# Altium integrated library Infineon_Power_MOSFET.IntLib: 1448 symbols (part 16 of 47)
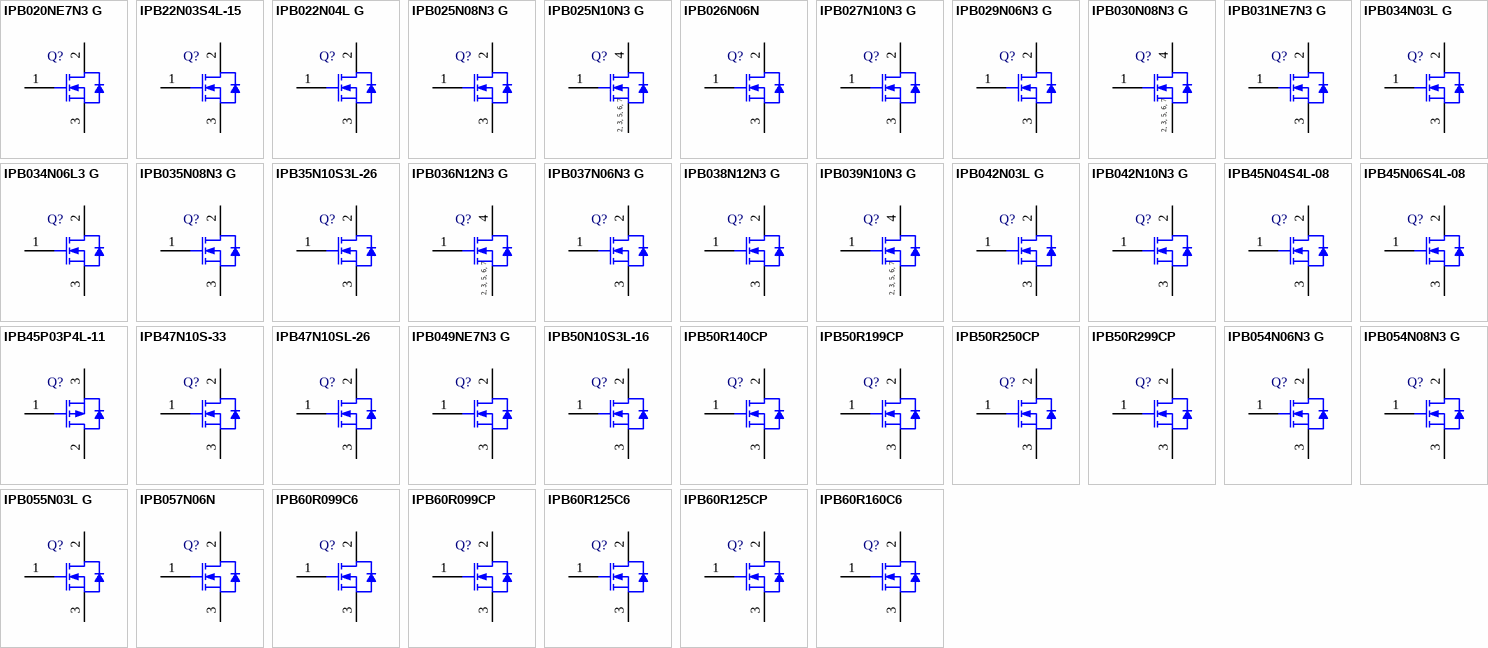
[diagram p52: symbols IPB020NE7N3 G to IPB60R160C6]

## IPB47N10S-33
designator Q?
SIPMOS Power-Transistor, 100 V VDS, 47 A ID, PG-TO263-3-2, Reel, Green; Manufacturer: Infineon; PartNumber: IPB47N10S-33; Green: TRUE; ID (max): 47 A; IDpuls (max): 188 A; Ptot (max): 175 W; QG: 70 nC; RDS (on) (max) (@10V): 33 mOhm; RthJC (max): 0.85 K/W; VDS (max): 100 V; VGS(th) (max): 4 V; VGS(th) (min): 2.1 V; PackageVersion: Jul-09; PackageReference: PG-TO263-3-2; PackageDescription: 3-Pin Plastic (Green) Transistor Single Outline Package, 10 x 9.25 mm Body, 2.54 mm Pitch; Supplier 1: Mouser; Supplier Part Number 1: 726-IPB47N10S33; Supplier 2: Digi-Key; Supplier Part Number 2: IPB47N10S-33TR-ND; Supplier 3: Digi-Key; Supplier Part Number 3: IPB47N10S-33CT-ND; Supplier 4: Digi-Key; Supplier Part Number 4: IPB47N10S-33DKR-ND; Halogen-free: TRUE; Packing: Reel; Technology: SIPMOS; Mounting Technology: Surface Mount; ComponentLink1Description: Manufacturer URL; ComponentLink1URL: http://www.infineon.com/; ComponentLink2Description: Datasheet; ComponentLink2URL: http://www.infineon.com/dgdl/IPP_B_I47N10S-33.pdf?folderId=db3a304412b407950112b42a6a0a4339&fileId=db3a304412b407950112b42a6f52433e&location=en.Products.Automotive_ICs.Automotive_MOSFETs.Single__N-Channel_100V_MOSFETs.DATASHEET.IPP_B_I47N10S-33.pdf; ComponentLink3Description: Package Specification; ComponentLink3URL: http://www.infineon.com/dgdl/BTS141TC_DS_10.pdf?folderId=db3a3043163797a6011667aa084c0e01&fileId=db3a3043242ebc9e01242f43f58b003e&location=en.Products.Automotive_ICs.Smart_High-_and_Low-Side_Switches.HITFET___TEMPFET__-_Smart_Low-Side_Switches.DATASHEET.BTS141TC_DS_10.pdf
footprint INF-PG-TO263-3-2_N (DPAK, 3-Leads, Body 10x9.25mm, Pitch 2.54mm, IPC Medium Density)
footprint INF-PG-TO263-3-2_L (DPAK, 3-Leads, Body 10x9.25mm, Pitch 2.54mm, IPC High Density)
footprint INF-PG-TO263-3-2_M (DPAK, 3-Leads, Body 10x9.25mm, Pitch 2.54mm, IPC Low Density)
pins: 1 GATE, 2 DRAIN, 3 SOURCE

## IPB47N10SL-26
designator Q?
SIPMOS Power-Transistor, 100 V VDS, 47 A ID, PG-TO263-3-2, Reel, Green; Manufacturer: Infineon; PartNumber: IPB47N10SL-26; Green: TRUE; ID (max): 47 A; IDpuls (max): 188 A; Ptot (max): 175 W; QG: 90 nC; RDS (on) (max) (@10V): 26 mOhm; RDS (on) (max) (@4.5V): 40 mOhm; RthJC (max): 0.85 K/W; VDS (max): 100 V; VGS(th) (max): 2 V; VGS(th) (min): 1.2 V; PackageVersion: Jul-09; PackageReference: PG-TO263-3-2; PackageDescription: 3-Pin Plastic (Green) Transistor Single Outline Package, 10 x 9.25 mm Body, 2.54 mm Pitch; Supplier 1: Mouser; Supplier Part Number 1: 726-IPB47N10SL-26; Supplier 2: Digi-Key; Supplier Part Number 2: IPB47N10SL-26TR-ND; Supplier 3: Digi-Key; Supplier Part Number 3: IPB47N10SL-26CT-ND; Supplier 4: Digi-Key; Supplier Part Number 4: IPB47N10SL-26DKR-ND; Halogen-free: TRUE; Packing: Reel; Technology: SIPMOS; Mounting Technology: Surface Mount; ComponentLink1Description: Manufacturer URL; ComponentLink1URL: http://www.infineon.com/; ComponentLink2Description: Datasheet; ComponentLink2URL: http://www.infineon.com/dgdl/IPP_B_I47N10SL-26.pdf?folderId=db3a304412b407950112b42a6a0a4339&fileId=db3a304412b407950112b42a6a78433a&location=en.Products.Automotive_ICs.Automotive_MOSFETs.Single__N-Channel_100V_MOSFETs.DATASHEET.IPP_B_I47N10SL-26.pdf; ComponentLink3Description: Package Specification; ComponentLink3URL: http://www.infineon.com/dgdl/BTS141TC_DS_10.pdf?folderId=db3a3043163797a6011667aa084c0e01&fileId=db3a3043242ebc9e01242f43f58b003e&location=en.Products.Automotive_ICs.Smart_High-_and_Low-Side_Switches.HITFET___TEMPFET__-_Smart_Low-Side_Switches.DATASHEET.BTS141TC_DS_10.pdf
footprint INF-PG-TO263-3-2_N (DPAK, 3-Leads, Body 10x9.25mm, Pitch 2.54mm, IPC Medium Density)
footprint INF-PG-TO263-3-2_L (DPAK, 3-Leads, Body 10x9.25mm, Pitch 2.54mm, IPC High Density)
footprint INF-PG-TO263-3-2_M (DPAK, 3-Leads, Body 10x9.25mm, Pitch 2.54mm, IPC Low Density)
pins: 1 GATE, 2 DRAIN, 3 SOURCE

## IPB049NE7N3 G
designator Q?
N-Channel OptiMOS 3 Power-Transistor, 75 V VDS, 80 A ID, -55 to 175 degC, PG-TO-263-3-2, Reel, Green; Manufacturer: Infineon; PartNumber: IPB049NE7N3 G; Green: TRUE; ID (max): 80 A; IDpuls (max): 320 A; Polarity: N; Ptot (max): 150 W; QG: 51 nC; RDS (on) (max): 4.9 mOhm; Rth: 1 K/W; RthJA (max): 62 K/W; VDS (max): 75 V; VGS(th) (max): 3.8 V; VGS(th) (min): 2.3 V; DatasheetVersion: Rev. 2.2; PackageVersion: Rev. 01, 08/2007; PackageReference: PG-TO-263-3-2; PackageDescription: 3-Pin Plastic (Green) Transistor Single Outline Package, 10.06 x 8.98 mm Body, 2.54 mm Pitch; Supplier 1: Mouser; Supplier Part Number 1: 726-IPB049NE7N3G; Supplier 2: Digi-Key; Supplier Part Number 2: IPB049NE7N3 GTR-ND; Supplier 3: Digi-Key; Supplier Part Number 3: IPB049NE7N3 GCT-ND; Supplier 4: Digi-Key; Supplier Part Number 4: IPB049NE7N3 GDKR-ND; Halogen-free: TRUE; Packing: Reel; RthJC (max): 1 K/W; Mounting Technology: Surface Mount; ComponentLink1Description: Manufacturer URL; ComponentLink1URL: http://www.infineon.com/; ComponentLink2Description: Datasheet; ComponentLink2URL: http://www.infineon.com/dgdl/IPB049NE7N3_Rev2.2.pdf?folderId=db3a304313b8b5a60113cee8763b02d7&fileId=db3a304320d39d590121a517a48e0bb9; ComponentLink3Description: Package Specification; ComponentLink3URL: http://www.infineon.com/dgdl/IPB026N06N_Rev2.2.pdf?folderId=db3a304313b8b5a60113cee8763b02d7&fileId=db3a3043372d5cc8013754c7b2a74f7c
footprint INF-PG-TO-263-3-2_A_N (DPAK, 3-Leads, Body 10.06x8.98mm, Pitch 2.54mm, IPC Medium Density)
footprint INF-PG-TO-263-3-2_A_L (DPAK, 3-Leads, Body 10.06x8.98mm, Pitch 2.54mm, IPC High Density)
footprint INF-PG-TO-263-3-2_A_M (DPAK, 3-Leads, Body 10.06x8.98mm, Pitch 2.54mm, IPC Low Density)
pins: 1 GATE, 2 DRAIN, 3 SOURCE

## IPB50N10S3L-16
designator Q?
OptiMOS-T Power-Transistor, 100 V VDS, 50 A ID, PG-TO263-3-2, Reel, Green; Manufacturer: Infineon; PartNumber: IPB50N10S3L-16; Green: TRUE; ID (max): 50 A; IDpuls (max): 200 A; Ptot (max): 100 W; QG: 49 nC; RDS (on) (max) (@10V): 15.4 mOhm; RDS (on) (max) (@4.5V): 20.6 mOhm; RthJC (max): 1.5 K/W; VDS (max): 100 V; VGS(th) (max): 2.4 V; VGS(th) (min): 1.2 V; DatasheetVersion: Rev. 1.1; PackageVersion: Jul-09; PackageReference: PG-TO263-3-2; PackageDescription: 3-Pin Plastic (Green) Transistor Single Outline Package, 10 x 9.25 mm Body, 2.54 mm Pitch; Supplier 1: Mouser; Supplier Part Number 1: 726-IPB50N10S3L16; Supplier 2: Digi-Key; Supplier Part Number 2: IPB50N10S3L-16INTR-ND; Supplier 3: Digi-Key; Supplier Part Number 3: IPB50N10S3L-16INCT-ND; Supplier 4: Digi-Key; Supplier Part Number 4: IPB50N10S3L-16INDKR-ND; Halogen-free: TRUE; Packing: Reel; Technology: OptiMOS-T; Mounting Technology: Surface Mount; ComponentLink1Description: Manufacturer URL; ComponentLink1URL: http://www.infineon.com/; ComponentLink2Description: Datasheet; ComponentLink2URL: http://www.infineon.com/dgdl/IPP_B_I50N10S3L-16_DS_1_1_neu.pdf?folderId=db3a3043156fd5730115c7d50620107c&fileId=db3a30431a5c32f2011a9090a32c5962&location=en.Products.Automotive_ICs.Automotive_MOSFETs.Single__N-Channel_100V_MOSFETs.DATASHEET.IPP_B_I50N10S3L-16_DS_1_1_neu.pdf; ComponentLink3Description: Package Specification; ComponentLink3URL: http://www.infineon.com/dgdl/BTS141TC_DS_10.pdf?folderId=db3a3043163797a6011667aa084c0e01&fileId=db3a3043242ebc9e01242f43f58b003e&location=en.Products.Automotive_ICs.Smart_High-_and_Low-Side_Switches.HITFET___TEMPFET__-_Smart_Low-Side_Switches.DATASHEET.BTS141TC_DS_10.pdf
footprint INF-PG-TO263-3-2_N (DPAK, 3-Leads, Body 10x9.25mm, Pitch 2.54mm, IPC Medium Density)
footprint INF-PG-TO263-3-2_L (DPAK, 3-Leads, Body 10x9.25mm, Pitch 2.54mm, IPC High Density)
footprint INF-PG-TO263-3-2_M (DPAK, 3-Leads, Body 10x9.25mm, Pitch 2.54mm, IPC Low Density)
pins: 1 GATE, 2 DRAIN, 3 SOURCE

## IPB50R140CP
designator Q?
N-Channel CoolMOS Power-Transistor, 500 V VDS, 23 A ID, -55 to 150 degC, PG-TO263-3-2, Reel, Green; Manufacturer: Infineon; PartNumber: IPB50R140CP; Green: TRUE; ID (max): 23 A; IDpuls (max): 56 A; Polarity: N; Ptot (max): 192 W; QG: 48 nC; RDS (on) (max): 140 mOhm; Rth: 0.65 K/W; RthJA (max): 62 K/W; VDS (max): 500 V; VGS(th) (max): 3.5 V; VGS(th) (min): 2.5 V; DatasheetVersion: Rev. 2.0; PackageVersion: Jul-09; PackageReference: PG-TO263-3-2; PackageDescription: 3-Pin Plastic (Green) Transistor Single Outline Package, 10 x 9.25 mm Body, 2.54 mm Pitch; Supplier 1: Mouser; Supplier Part Number 1: 726-IPB50R140CP; Supplier 2: Digi-Key; Supplier Part Number 2: IPB50R140CPTR-ND; Supplier 3: Digi-Key; Supplier Part Number 3: IPB50R140CPCT-ND; Supplier 4: Digi-Key; Supplier Part Number 4: IPB50R140CPDKR-ND; Halogen-free: TRUE; Packing: Reel; RthJC (max): 0.65 K/W; Technology: CoolMOS CP; Mounting Technology: Surface Mount; ComponentLink1Description: Manufacturer URL; ComponentLink1URL: http://www.infineon.com/; ComponentLink2Description: Datasheet; ComponentLink2URL: http://www.infineon.com/dgdl/IPB50R140CP_rev2.0.pdf?folderId=db3a304412b407950112b408e8c90004&fileId=db3a304412b407950112b42d4eb4484f; ComponentLink3Description: Package Specification; ComponentLink3URL: http://www.infineon.com/dgdl/BTS141TC_DS_10.pdf?folderId=db3a3043163797a6011667aa084c0e01&fileId=db3a3043242ebc9e01242f43f58b003e&location=en.Products.Automotive_ICs.Smart_High-_and_Low-Side_Switches.HITFET___TEMPFET__-_Smart_Low-Side_Switches.DATASHEET.BTS141TC_DS_10.pdf
footprint INF-PG-TO263-3-2_N (DPAK, 3-Leads, Body 10x9.25mm, Pitch 2.54mm, IPC Medium Density)
footprint INF-PG-TO263-3-2_L (DPAK, 3-Leads, Body 10x9.25mm, Pitch 2.54mm, IPC High Density)
footprint INF-PG-TO263-3-2_M (DPAK, 3-Leads, Body 10x9.25mm, Pitch 2.54mm, IPC Low Density)
pins: 1 GATE, 2 DRAIN, 3 SOURCE

## IPB50R199CP
designator Q?
N-Channel CoolMOS Power-Transistor, 500 V VDS, 17 A ID, -55 to 150 degC, PG-TO263-3-2, Reel, Green; Manufacturer: Infineon; PartNumber: IPB50R199CP; Green: TRUE; ID (max): 17 A; IDpuls (max): 40 A; Polarity: N; Ptot (max): 139 W; QG: 34 nC; RDS (on) (max): 199 mOhm; Rth: 0.9 K/W; RthJA (max): 62 K/W; VDS (max): 500 V; VGS(th) (max): 3.5 V; VGS(th) (min): 2.5 V; DatasheetVersion: Rev. 2.0; PackageVersion: Jul-09; PackageReference: PG-TO263-3-2; PackageDescription: 3-Pin Plastic (Green) Transistor Single Outline Package, 10 x 9.25 mm Body, 2.54 mm Pitch; Supplier 1: Mouser; Supplier Part Number 1: 726-IPB50R199CP; Supplier 2: Newark; Supplier Part Number 2: 47W3468; Supplier 3: Farnell; Supplier Part Number 3: 2212849; Supplier 4: Digi-Key; Supplier Part Number 4: IPB50R199CP-ND; Halogen-free: TRUE; Packing: Reel; RthJC (max): 0.9 K/W; Technology: CoolMOS CP; Mounting Technology: Surface Mount; ComponentLink1Description: Manufacturer URL; ComponentLink1URL: http://www.infineon.com/; ComponentLink2Description: Datasheet; ComponentLink2URL: http://www.infineon.com/dgdl/IPB50R199CP_rev2.0.pdf?folderId=db3a304412b407950112b408e8c90004&fileId=db3a304412b407950112b42d54ba4857; ComponentLink3Description: Package Specification; ComponentLink3URL: http://www.infineon.com/dgdl/BTS141TC_DS_10.pdf?folderId=db3a3043163797a6011667aa084c0e01&fileId=db3a3043242ebc9e01242f43f58b003e&location=en.Products.Automotive_ICs.Smart_High-_and_Low-Side_Switches.HITFET___TEMPFET__-_Smart_Low-Side_Switches.DATASHEET.BTS141TC_DS_10.pdf
footprint INF-PG-TO263-3-2_N (DPAK, 3-Leads, Body 10x9.25mm, Pitch 2.54mm, IPC Medium Density)
footprint INF-PG-TO263-3-2_L (DPAK, 3-Leads, Body 10x9.25mm, Pitch 2.54mm, IPC High Density)
footprint INF-PG-TO263-3-2_M (DPAK, 3-Leads, Body 10x9.25mm, Pitch 2.54mm, IPC Low Density)
pins: 1 GATE, 2 DRAIN, 3 SOURCE

## IPB50R250CP
designator Q?
N-Channel CoolMOS Power-Transistor, 500 V VDS, 13 A ID, -55 to 150 degC, PG-TO263-3-2, Reel, Green; Manufacturer: Infineon; PartNumber: IPB50R250CP; Green: TRUE; ID (max): 13 A; IDpuls (max): 31 A; Polarity: N; Ptot (max): 114 W; QG: 27 nC; RDS (on) (max): 250 mOhm; Rth: 1.1 K/W; RthJA (max): 62 K/W; VDS (max): 500 V; VGS(th) (max): 3.5 V; VGS(th) (min): 2.5 V; DatasheetVersion: Rev. 2.0; PackageVersion: Jul-09; PackageReference: PG-TO263-3-2; PackageDescription: 3-Pin Plastic (Green) Transistor Single Outline Package, 10 x 9.25 mm Body, 2.54 mm Pitch; Supplier 1: Mouser; Supplier Part Number 1: 726-IPB50R250CP; Supplier 2: Digi-Key; Supplier Part Number 2: IPB50R250CP-ND; Halogen-free: TRUE; Packing: Reel; RthJC (max): 1.1 K/W; Technology: CoolMOS CP; Mounting Technology: Surface Mount; ComponentLink1Description: Manufacturer URL; ComponentLink1URL: http://www.infineon.com/; ComponentLink2Description: Datasheet; ComponentLink2URL: http://www.infineon.com/dgdl/IPB50R250CP_rev2.0.pdf?folderId=db3a304412b407950112b408e8c90004&fileId=db3a304412b407950112b42d51af4853; ComponentLink3Description: Package Specification; ComponentLink3URL: http://www.infineon.com/dgdl/BTS141TC_DS_10.pdf?folderId=db3a3043163797a6011667aa084c0e01&fileId=db3a3043242ebc9e01242f43f58b003e&location=en.Products.Automotive_ICs.Smart_High-_and_Low-Side_Switches.HITFET___TEMPFET__-_Smart_Low-Side_Switches.DATASHEET.BTS141TC_DS_10.pdf
footprint INF-PG-TO263-3-2_N (DPAK, 3-Leads, Body 10x9.25mm, Pitch 2.54mm, IPC Medium Density)
footprint INF-PG-TO263-3-2_L (DPAK, 3-Leads, Body 10x9.25mm, Pitch 2.54mm, IPC High Density)
footprint INF-PG-TO263-3-2_M (DPAK, 3-Leads, Body 10x9.25mm, Pitch 2.54mm, IPC Low Density)
pins: 1 GATE, 2 DRAIN, 3 SOURCE

## IPB50R299CP
designator Q?
N-Channel CoolMOS Power-Transistor, 500 V VDS, 12 A ID, -55 to 150 degC, PG-TO263-3-2, Reel, Green; Manufacturer: Infineon; PartNumber: IPB50R299CP; Green: TRUE; ID (max): 12 A; IDpuls (max): 26 A; Polarity: N; Ptot (max): 104 W; QG: 23 nC; RDS (on) (max): 299 mOhm; Rth: 1.2 K/W; RthJA (max): 62 K/W; VDS (max): 500 V; VGS(th) (max): 3.5 V; VGS(th) (min): 2.5 V; DatasheetVersion: Rev. 2.1; PackageVersion: Jul-09; PackageReference: PG-TO263-3-2; PackageDescription: 3-Pin Plastic (Green) Transistor Single Outline Package, 10 x 9.25 mm Body, 2.54 mm Pitch; Supplier 1: Mouser; Supplier Part Number 1: 726-IPB50R299CP; Supplier 2: Digi-Key; Supplier Part Number 2: IPB50R299CP-ND; Halogen-free: TRUE; Packing: Reel; RthJC (max): 1.2 K/W; Technology: CoolMOS CP; Mounting Technology: Surface Mount; ComponentLink1Description: Manufacturer URL; ComponentLink1URL: http://www.infineon.com/; ComponentLink2Description: Datasheet; ComponentLink2URL: http://www.infineon.com/dgdl/IPB50R299CP_rev2.1.pdf?folderId=db3a304412b407950112b408e8c90004&fileId=db3a304412b407950112b42d45744843; ComponentLink3Description: Package Specification; ComponentLink3URL: http://www.infineon.com/dgdl/BTS141TC_DS_10.pdf?folderId=db3a3043163797a6011667aa084c0e01&fileId=db3a3043242ebc9e01242f43f58b003e&location=en.Products.Automotive_ICs.Smart_High-_and_Low-Side_Switches.HITFET___TEMPFET__-_Smart_Low-Side_Switches.DATASHEET.BTS141TC_DS_10.pdf
footprint INF-PG-TO263-3-2_N (DPAK, 3-Leads, Body 10x9.25mm, Pitch 2.54mm, IPC Medium Density)
footprint INF-PG-TO263-3-2_L (DPAK, 3-Leads, Body 10x9.25mm, Pitch 2.54mm, IPC High Density)
footprint INF-PG-TO263-3-2_M (DPAK, 3-Leads, Body 10x9.25mm, Pitch 2.54mm, IPC Low Density)
pins: 1 GATE, 2 DRAIN, 3 SOURCE

## IPB054N06N3 G
designator Q?
N-Channel OptiMOS 3 Power-Transistor, 60 V VDS, 80 A ID, -55 to 175 degC, PG-TO-263-3-2, Reel, Green; Manufacturer: Infineon; PartNumber: IPB054N06N3 G; Green: TRUE; ID (max): 80 A; IDpuls (max): 320 A; Polarity: N; Ptot (max): 115 W; QG: 61 nC; RDS (on) (max): 5.4 mOhm; Rth: 1.3 K/W; RthJA (max): 62 K/W; VDS (max): 60 V; VGS(th) (max): 4 V; VGS(th) (min): 2 V; DatasheetVersion: Rev. 2.2; PackageVersion: Rev. 01, 08/2007; PackageReference: PG-TO-263-3-2; PackageDescription: 3-Pin Plastic (Green) Transistor Single Outline Package, 10.06 x 8.98 mm Body, 2.54 mm Pitch; Supplier 1: Mouser; Supplier Part Number 1: 726-IPB054N06N3G; Supplier 2: Digi-Key; Supplier Part Number 2: IPB054N06N3 GTR-ND; Supplier 3: Digi-Key; Supplier Part Number 3: IPB054N06N3 GCT-ND; Supplier 4: Digi-Key; Supplier Part Number 4: IPB054N06N3 GDKR-ND; Halogen-free: TRUE; Packing: Reel; RthJC (max): 1.3 K/W; Mounting Technology: Surface Mount; ComponentLink1Description: Manufacturer URL; ComponentLink1URL: http://www.infineon.com/; ComponentLink2Description: Datasheet; ComponentLink2URL: http://www.infineon.com/dgdl/IPP_B057N06N3_Rev2.2.pdf?folderId=db3a30431441fb5d01148ca9f1be0e77&fileId=db3a30431ddc9372011e2b439f1d4d93; ComponentLink3Description: Package Specification; ComponentLink3URL: http://www.infineon.com/dgdl/IPB026N06N_Rev2.2.pdf?folderId=db3a304313b8b5a60113cee8763b02d7&fileId=db3a3043372d5cc8013754c7b2a74f7c
footprint INF-PG-TO-263-3-2_A_N (DPAK, 3-Leads, Body 10.06x8.98mm, Pitch 2.54mm, IPC Medium Density)
footprint INF-PG-TO-263-3-2_A_L (DPAK, 3-Leads, Body 10.06x8.98mm, Pitch 2.54mm, IPC High Density)
footprint INF-PG-TO-263-3-2_A_M (DPAK, 3-Leads, Body 10.06x8.98mm, Pitch 2.54mm, IPC Low Density)
pins: 1 GATE, 2 DRAIN, 3 SOURCE

## IPB054N08N3 G
designator Q?
N-Channel OptiMOS 3 Power-Transistor, 80 V VDS, 80 A ID, -55 to 175 degC, PG-TO-263-3-2, Reel, Green; Manufacturer: Infineon; PartNumber: IPB054N08N3 G; Green: TRUE; ID (max): 80 A; IDpuls (max): 320 A; Polarity: N; Ptot (max): 150 W; QG: 52 nC; RDS (on) (max): 5.4 mOhm; Rth: 1 K/W; RthJA (max): 62 K/W; VDS (max): 80 V; VGS(th) (max): 3.5 V; VGS(th) (min): 2 V; DatasheetVersion: Rev. 1.2; PackageVersion: Rev. 01, 08/2007; PackageReference: PG-TO-263-3-2; PackageDescription: 3-Pin Plastic (Green) Transistor Single Outline Package, 10.06 x 8.98 mm Body, 2.54 mm Pitch; Supplier 1: Mouser; Supplier Part Number 1: 726-IPB054N08N3G; Supplier 2: Digi-Key; Supplier Part Number 2: IPB054N08N3 GTR-ND; Supplier 3: Digi-Key; Supplier Part Number 3: IPB054N08N3 GCT-ND; Supplier 4: Digi-Key; Supplier Part Number 4: IPB054N08N3 GDKR-ND; Halogen-free: TRUE; Packing: Reel; RthJC (max): 1 K/W; Mounting Technology: Surface Mount; ComponentLink1Description: Manufacturer URL; ComponentLink1URL: http://www.infineon.com/; ComponentLink2Description: Datasheet; ComponentLink2URL: http://www.infineon.com/dgdl/IPP057N08N3_Rev1.2.pdf?folderId=db3a304313b8b5a60113cee8763b02d7&fileId=db3a304317a748360117cf0cf5951d06; ComponentLink3Description: Package Specification; ComponentLink3URL: http://www.infineon.com/dgdl/IPB026N06N_Rev2.2.pdf?folderId=db3a304313b8b5a60113cee8763b02d7&fileId=db3a3043372d5cc8013754c7b2a74f7c
footprint INF-PG-TO-263-3-2_A_N (DPAK, 3-Leads, Body 10.06x8.98mm, Pitch 2.54mm, IPC Medium Density)
footprint INF-PG-TO-263-3-2_A_L (DPAK, 3-Leads, Body 10.06x8.98mm, Pitch 2.54mm, IPC High Density)
footprint INF-PG-TO-263-3-2_A_M (DPAK, 3-Leads, Body 10.06x8.98mm, Pitch 2.54mm, IPC Low Density)
pins: 1 GATE, 2 DRAIN, 3 SOURCE

## IPB055N03L G
designator Q?
N-Channel OptiMOS 3 Power-Transistor, 30 V VDS, 50 A ID, -55 to 175 degC, PG-TO263-3-2, Reel, Green; Manufacturer: Infineon; PartNumber: IPB055N03L G; Green: TRUE; ID (max): 50 A; IDpuls (max): 350 A; Polarity: N; Ptot (max): 68 W; QG: 15 nC; RDS (on) (max): 5.5 mOhm; RDS (on) (max) (@4.5V): 7.8 mOhm; Rth: 2.2 K/W; RthJA (max): 62 K/W; VDS (max): 30 V; VGS(th) (max): 2.2 V; VGS(th) (min): 1 V; DatasheetVersion: Rev. 1.03; PackageVersion: Jul-09; PackageReference: PG-TO263-3-2; PackageDescription: 3-Pin Plastic (Green) Transistor Single Outline Package, 10 x 9.25 mm Body, 2.54 mm Pitch; Supplier 1: Mouser; Supplier Part Number 1: 726-IPB055N03LG; Supplier 2: Farnell; Supplier Part Number 2: 1775539; Supplier 3: Digi-Key; Supplier Part Number 3: IPB055N03LGINTR-ND; Supplier 4: Digi-Key; Supplier Part Number 4: IPB055N03LGINCT-ND; Supplier 5: Digi-Key; Supplier Part Number 5: IPB055N03LGINDKR-ND; Halogen-free: TRUE; Packing: Reel; RthJC (max): 2.2 K/W; Mounting Technology: Surface Mount; ComponentLink1Description: Manufacturer URL; ComponentLink1URL: http://www.infineon.com/; ComponentLink2Description: Datasheet; ComponentLink2URL: http://www.infineon.com/dgdl/IPP055N03L_rev2.pdf?folderId=db3a30431441fb5d01148c401f250e27&fileId=db3a30431441fb5d01148d01ee1c0e91; ComponentLink3Description: Package Specification; ComponentLink3URL: http://www.infineon.com/dgdl/BTS141TC_DS_10.pdf?folderId=db3a3043163797a6011667aa084c0e01&fileId=db3a3043242ebc9e01242f43f58b003e&location=en.Products.Automotive_ICs.Smart_High-_and_Low-Side_Switches.HITFET___TEMPFET__-_Smart_Low-Side_Switches.DATASHEET.BTS141TC_DS_10.pdf
footprint INF-PG-TO263-3-2_N (DPAK, 3-Leads, Body 10x9.25mm, Pitch 2.54mm, IPC Medium Density)
footprint INF-PG-TO263-3-2_L (DPAK, 3-Leads, Body 10x9.25mm, Pitch 2.54mm, IPC High Density)
footprint INF-PG-TO263-3-2_M (DPAK, 3-Leads, Body 10x9.25mm, Pitch 2.54mm, IPC Low Density)
pins: 1 GATE, 2 DRAIN, 3 SOURCE

## IPB057N06N
designator Q?
N-Channel OptiMOS Power-Transistor, 60 V VDS, 45 A ID, -55 to 175 degC, PG-TO263-3-2, Reel, Green; Manufacturer: Infineon; PartNumber: IPB057N06N; Green: TRUE; ID (max): 45 A; IDpuls (max): 180 A; Polarity: N; Ptot (max): 83 W; QG: 27 nC; RDS (on) (max): 5.7 mOhm; Rth: 1.8 K/W; RthJA (max): 62 K/W; VDS (max): 60 V; VGS(th) (max): 3.3 V; VGS(th) (min): 2.1 V; DatasheetVersion: Rev. 2.2; PackageVersion: Jul-09; PackageReference: PG-TO263-3-2; PackageDescription: 3-Pin Plastic (Green) Transistor Single Outline Package, 10 x 9.25 mm Body, 2.54 mm Pitch; Supplier 1: Digi-Key; Supplier Part Number 1: IPB057N06NTR-ND; Supplier 2: Digi-Key; Supplier Part Number 2: IPB057N06NCT-ND; Supplier 3: Digi-Key; Supplier Part Number 3: IPB057N06NDKR-ND; Halogen-free: TRUE; Packing: Reel; RthJC (max): 1.8 K/W; Mounting Technology: Surface Mount; ComponentLink1Description: Manufacturer URL; ComponentLink1URL: http://www.infineon.com/; ComponentLink2Description: Datasheet; ComponentLink2URL: http://www.infineon.com/dgdl/IPB057N06N_Rev2.2.pdf?folderId=db3a304313b8b5a60113cee8763b02d7&fileId=db3a30433727a44301372c2ed50b49b3; ComponentLink3Description: Package Specification; ComponentLink3URL: http://www.infineon.com/dgdl/BTS141TC_DS_10.pdf?folderId=db3a3043163797a6011667aa084c0e01&fileId=db3a3043242ebc9e01242f43f58b003e&location=en.Products.Automotive_ICs.Smart_High-_and_Low-Side_Switches.HITFET___TEMPFET__-_Smart_Low-Side_Switches.DATASHEET.BTS141TC_DS_10.pdf
footprint INF-PG-TO263-3-2_N (DPAK, 3-Leads, Body 10x9.25mm, Pitch 2.54mm, IPC Medium Density)
footprint INF-PG-TO263-3-2_L (DPAK, 3-Leads, Body 10x9.25mm, Pitch 2.54mm, IPC High Density)
footprint INF-PG-TO263-3-2_M (DPAK, 3-Leads, Body 10x9.25mm, Pitch 2.54mm, IPC Low Density)
pins: 1 GATE, 2 DRAIN, 3 SOURCE

## IPB60R099C6
designator Q?
N-Channel CoolMOS C6 Power-Transistor, 600 V VDS, 38 A ID, -55 to 150 degC, PG-TO263-3-2, Reel, Green; Manufacturer: Infineon; PartNumber: IPB60R099C6; Green: TRUE; ID (max): 38 A; IDpuls (max): 112 A; Polarity: N; Ptot (max): 278 W; QG: 119 nC; RDS (on) (max): 99 mOhm; Rth: 0.45 K/W; RthJA (max): 62 K/W; VDS (max): 600 V; VGS(th) (max): 3.5 V; VGS(th) (min): 2.5 V; DatasheetVersion: Rev. 2.1; PackageVersion: Jul-09; PackageReference: PG-TO263-3-2; PackageDescription: 3-Pin Plastic (Green) Transistor Single Outline Package, 10 x 9.25 mm Body, 2.54 mm Pitch; Supplier 1: Mouser; Supplier Part Number 1: 726-IPB60R099C6; Supplier 2: Digi-Key; Supplier Part Number 2: IPB60R099C6TR-ND; Supplier 3: Digi-Key; Supplier Part Number 3: IPB60R099C6CT-ND; Supplier 4: Digi-Key; Supplier Part Number 4: IPB60R099C6DKR-ND; Halogen-free: TRUE; Packing: Reel; RthJC (max): 0.45 K/W; Technology: CoolMOS C6; Mounting Technology: Surface Mount; ComponentLink1Description: Manufacturer URL; ComponentLink1URL: http://www.infineon.com/; ComponentLink2Description: Datasheet; ComponentLink2URL: http://www.infineon.com/dgdl/IPB60R099C6_2_1.pdf?folderId=db3a3043163797a6011638933eda014b&fileId=db3a30432313ff5e012394d25bd3069e; ComponentLink3Description: Package Specification; ComponentLink3URL: http://www.infineon.com/dgdl/BTS141TC_DS_10.pdf?folderId=db3a3043163797a6011667aa084c0e01&fileId=db3a3043242ebc9e01242f43f58b003e&location=en.Products.Automotive_ICs.Smart_High-_and_Low-Side_Switches.HITFET___TEMPFET__-_Smart_Low-Side_Switches.DATASHEET.BTS141TC_DS_10.pdf
footprint INF-PG-TO263-3-2_N (DPAK, 3-Leads, Body 10x9.25mm, Pitch 2.54mm, IPC Medium Density)
footprint INF-PG-TO263-3-2_L (DPAK, 3-Leads, Body 10x9.25mm, Pitch 2.54mm, IPC High Density)
footprint INF-PG-TO263-3-2_M (DPAK, 3-Leads, Body 10x9.25mm, Pitch 2.54mm, IPC Low Density)
pins: 1 GATE, 2 DRAIN, 3 SOURCE

## IPB60R099CP
designator Q?
N-Channel CoolMOS Power-Transistor, 600 V VDS, 31 A ID, -55 to 150 degC, PG-TO263-3-2, Reel, Green; Manufacturer: Infineon; PartNumber: IPB60R099CP; Green: TRUE; ID (max): 31 A; IDpuls (max): 93 A; Polarity: N; Ptot (max): 255 W; QG: 60 nC; RDS (on) (max): 99 mOhm; Rth: 0.5 K/W; RthJA (max): 62 K/W; VDS (max): 600 V; VGS(th) (max): 3.5 V; VGS(th) (min): 2.5 V; DatasheetVersion: Rev. 2.0; PackageVersion: Jul-09; PackageReference: PG-TO263-3-2; PackageDescription: 3-Pin Plastic (Green) Transistor Single Outline Package, 10 x 9.25 mm Body, 2.54 mm Pitch; Supplier 1: Mouser; Supplier Part Number 1: 726-IPB60R099CP; Supplier 2: Newark; Supplier Part Number 2: 33P7131; Supplier 3: Farnell; Supplier Part Number 3: 1664014; Supplier 4: Farnell; Supplier Part Number 4: 1664014RL; Supplier 5: Digi-Key; Supplier Part Number 5: IPB60R099CPTR-ND; Supplier 6: Digi-Key; Supplier Part Number 6: IPB60R099CPCT-ND; Supplier 7: Digi-Key; Supplier Part Number 7: IPB60R099CPDKR-ND; Halogen-free: TRUE; Packing: Reel; RthJC (max): 0.5 K/W; Technology: CoolMOS CP; Mounting Technology: Surface Mount; ComponentLink1Description: Manufacturer URL; ComponentLink1URL: http://www.infineon.com/; ComponentLink2Description: Datasheet; ComponentLink2URL: http://www.infineon.com/dgdl/IPB60R099CP_rev2.0.pdf?folderId=db3a304412b407950112b408e8c90004&fileId=db3a304412b407950112b42ded51491b; ComponentLink3Description: Package Specification; ComponentLink3URL: http://www.infineon.com/dgdl/BTS141TC_DS_10.pdf?folderId=db3a3043163797a6011667aa084c0e01&fileId=db3a3043242ebc9e01242f43f58b003e&location=en.Products.Automotive_ICs.Smart_High-_and_Low-Side_Switches.HITFET___TEMPFET__-_Smart_Low-Side_Switches.DATASHEET.BTS141TC_DS_10.pdf
footprint INF-PG-TO263-3-2_N (DPAK, 3-Leads, Body 10x9.25mm, Pitch 2.54mm, IPC Medium Density)
footprint INF-PG-TO263-3-2_L (DPAK, 3-Leads, Body 10x9.25mm, Pitch 2.54mm, IPC High Density)
footprint INF-PG-TO263-3-2_M (DPAK, 3-Leads, Body 10x9.25mm, Pitch 2.54mm, IPC Low Density)
pins: 1 GATE, 2 DRAIN, 3 SOURCE

## IPB60R125C6
designator Q?
N-Channel CoolMOS C6 Power-Transistor, 600 V VDS, 30 A ID, -55 to 150 degC, PG-TO263-3-2, Reel, Green; Manufacturer: Infineon; PartNumber: IPB60R125C6; Green: TRUE; ID (max): 30 A; IDpuls (max): 89 A; Polarity: N; Ptot (max): 219 W; QG: 96 nC; RDS (on) (max): 125 mOhm; Rth: 0.57 K/W; RthJA (max): 62 K/W; VDS (max): 600 V; VGS(th) (max): 3.5 V; VGS(th) (min): 2.5 V; DatasheetVersion: Rev. 2.1; PackageVersion: Jul-09; PackageReference: PG-TO263-3-2; PackageDescription: 3-Pin Plastic (Green) Transistor Single Outline Package, 10 x 9.25 mm Body, 2.54 mm Pitch; Supplier 1: Mouser; Supplier Part Number 1: 726-IPB60R125C6; Supplier 2: Digi-Key; Supplier Part Number 2: IPB60R125C6TR-ND; Supplier 3: Digi-Key; Supplier Part Number 3: IPB60R125C6CT-ND; Supplier 4: Digi-Key; Supplier Part Number 4: IPB60R125C6DKR-ND; Halogen-free: TRUE; Packing: Reel; RthJC (max): 0.57 K/W; Technology: CoolMOS C6; Mounting Technology: Surface Mount; ComponentLink1Description: Manufacturer URL; ComponentLink1URL: http://www.infineon.com/; ComponentLink2Description: Datasheet; ComponentLink2URL: http://www.infineon.com/dgdl/IPB60R125C6_2_1.pdf?folderId=db3a3043163797a6011638933eda014b&fileId=db3a304323b87bc2012400cb0d9d5d2d; ComponentLink3Description: Package Specification; ComponentLink3URL: http://www.infineon.com/dgdl/BTS141TC_DS_10.pdf?folderId=db3a3043163797a6011667aa084c0e01&fileId=db3a3043242ebc9e01242f43f58b003e&location=en.Products.Automotive_ICs.Smart_High-_and_Low-Side_Switches.HITFET___TEMPFET__-_Smart_Low-Side_Switches.DATASHEET.BTS141TC_DS_10.pdf
footprint INF-PG-TO263-3-2_N (DPAK, 3-Leads, Body 10x9.25mm, Pitch 2.54mm, IPC Medium Density)
footprint INF-PG-TO263-3-2_L (DPAK, 3-Leads, Body 10x9.25mm, Pitch 2.54mm, IPC High Density)
footprint INF-PG-TO263-3-2_M (DPAK, 3-Leads, Body 10x9.25mm, Pitch 2.54mm, IPC Low Density)
pins: 1 GATE, 2 DRAIN, 3 SOURCE

## IPB60R125CP
designator Q?
N-Channel CoolMOS Power-Transistor, 600 V VDS, 25 A ID, -55 to 150 degC, PG-TO263-3-2, Reel, Green; Manufacturer: Infineon; PartNumber: IPB60R125CP; Green: TRUE; ID (max): 25 A; IDpuls (max): 82 A; Polarity: N; Ptot (max): 208 W; QG: 53 nC; RDS (on) (max): 125 mOhm; Rth: 1.2 K/W; RthJA (max): 62 K/W; RthJC (max): 0.6 K/W; VDS (max): 600 V; VGS(th) (max): 3.5 V; VGS(th) (min): 2.5 V; DatasheetVersion: Rev. 1.0; PackageVersion: Jul-09; PackageReference: PG-TO263-3-2; PackageDescription: 3-Pin Plastic (Green) Transistor Single Outline Package, 10 x 9.25 mm Body, 2.54 mm Pitch; Supplier 1: Mouser; Supplier Part Number 1: 726-IPB60R125CP; Supplier 2: Newark; Supplier Part Number 2: 33P7133; Supplier 3: Farnell; Supplier Part Number 3: 1664016; Supplier 4: Digi-Key; Supplier Part Number 4: IPB60R125CPTR-ND; Supplier 5: Digi-Key; Supplier Part Number 5: IPB60R125CPCT-ND; Supplier 6: Digi-Key; Supplier Part Number 6: IPB60R125CPDKR-ND; Halogen-free: TRUE; Packing: Reel; Technology: CoolMOS CP; Mounting Technology: Surface Mount; ComponentLink1Description: Manufacturer URL; ComponentLink1URL: http://www.infineon.com/; ComponentLink2Description: Datasheet; ComponentLink2URL: http://www.infineon.com/dgdl/IPB60R125CP_rev1.0+a.pdf?folderId=db3a304314dca38901152838487312ae&fileId=db3a304314dca389011528515f4f12ba; ComponentLink3Description: Package Specification; ComponentLink3URL: http://www.infineon.com/dgdl/BTS141TC_DS_10.pdf?folderId=db3a3043163797a6011667aa084c0e01&fileId=db3a3043242ebc9e01242f43f58b003e&location=en.Products.Automotive_ICs.Smart_High-_and_Low-Side_Switches.HITFET___TEMPFET__-_Smart_Low-Side_Switches.DATASHEET.BTS141TC_DS_10.pdf
footprint INF-PG-TO263-3-2_N (DPAK, 3-Leads, Body 10x9.25mm, Pitch 2.54mm, IPC Medium Density)
footprint INF-PG-TO263-3-2_L (DPAK, 3-Leads, Body 10x9.25mm, Pitch 2.54mm, IPC High Density)
footprint INF-PG-TO263-3-2_M (DPAK, 3-Leads, Body 10x9.25mm, Pitch 2.54mm, IPC Low Density)
pins: 1 GATE, 2 DRAIN, 3 SOURCE

## IPB60R160C6
designator Q?
N-Channel CoolMOS C6 Power-Transistor, 600 V VDS, 23.8 A ID, -55 to 150 degC, PG-TO263-3-2, Reel, Green; Manufacturer: Infineon; PartNumber: IPB60R160C6; Green: TRUE; ID (max): 23.8 A; IDpuls (max): 70 A; Polarity: N; Ptot (max): 176 W; QG: 75 nC; RDS (on) (max): 160 mOhm; Rth: 0.71 K/W; RthJA (max): 62 K/W; VDS (max): 600 V; VGS(th) (max): 3.5 V; VGS(th) (min): 2.5 V; DatasheetVersion: Rev. 2.1; PackageVersion: Jul-09; PackageReference: PG-TO263-3-2; PackageDescription: 3-Pin Plastic (Green) Transistor Single Outline Package, 10 x 9.25 mm Body, 2.54 mm Pitch; Supplier 1: Mouser; Supplier Part Number 1: 726-IPB60R160C6; Supplier 2: Digi-Key; Supplier Part Number 2: IPB60R160C6TR-ND; Supplier 3: Digi-Key; Supplier Part Number 3: IPB60R160C6CT-ND; Supplier 4: Digi-Key; Supplier Part Number 4: IPB60R160C6DKR-ND; Halogen-free: TRUE; Packing: Reel; RthJC (max): 0.71 K/W; Technology: CoolMOS C6; Mounting Technology: Surface Mount; ComponentLink1Description: Manufacturer URL; ComponentLink1URL: http://www.infineon.com/; ComponentLink2Description: Datasheet; ComponentLink2URL: http://www.infineon.com/dgdl/IPB60R160C6_2_1.pdf?folderId=db3a3043163797a6011638933eda014b&fileId=db3a304323b87bc20123ffdae47e5c35; ComponentLink3Description: Package Specification; ComponentLink3URL: http://www.infineon.com/dgdl/BTS141TC_DS_10.pdf?folderId=db3a3043163797a6011667aa084c0e01&fileId=db3a3043242ebc9e01242f43f58b003e&location=en.Products.Automotive_ICs.Smart_High-_and_Low-Side_Switches.HITFET___TEMPFET__-_Smart_Low-Side_Switches.DATASHEET.BTS141TC_DS_10.pdf
footprint INF-PG-TO263-3-2_N (DPAK, 3-Leads, Body 10x9.25mm, Pitch 2.54mm, IPC Medium Density)
footprint INF-PG-TO263-3-2_L (DPAK, 3-Leads, Body 10x9.25mm, Pitch 2.54mm, IPC High Density)
footprint INF-PG-TO263-3-2_M (DPAK, 3-Leads, Body 10x9.25mm, Pitch 2.54mm, IPC Low Density)
pins: 1 GATE, 2 DRAIN, 3 SOURCE

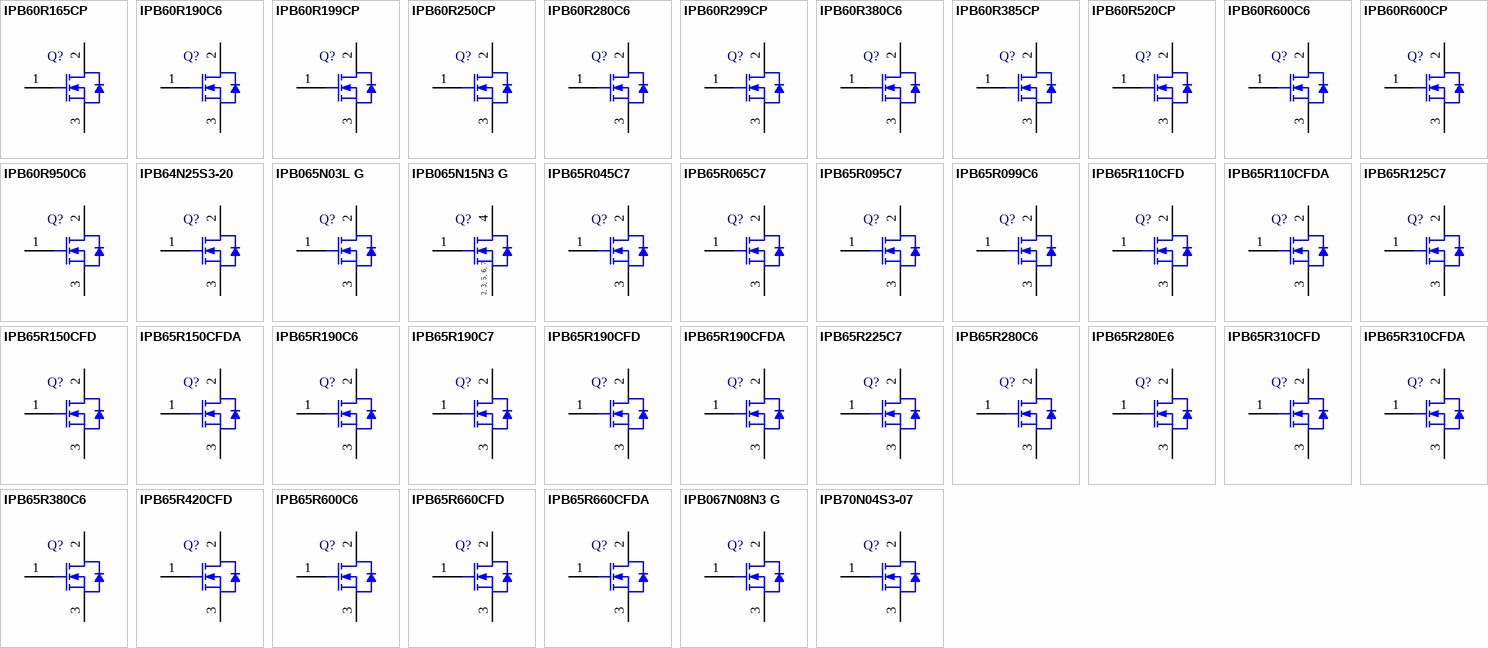
[diagram p13: symbols IPB60R165CP to IPB70N04S3-07]

## IPB60R165CP
designator Q?
N-Channel CoolMOS Power-Transistor, 600 V VDS, 21 A ID, -55 to 150 degC, PG-TO263-3-2, Reel, Green; Manufacturer: Infineon; PartNumber: IPB60R165CP; Green: TRUE; ID (max): 21 A; IDpuls (max): 61 A; Polarity: N; Ptot (max): 192 W; QG: 39 nC; RDS (on) (max): 165 mOhm; Rth: 0.65 K/W; RthJA (max): 62 K/W; VDS (max): 600 V; VGS(th) (max): 3.5 V; VGS(th) (min): 2.5 V; DatasheetVersion: Rev. 2.1; PackageVersion: Jul-09; PackageReference: PG-TO263-3-2; PackageDescription: 3-Pin Plastic (Green) Transistor Single Outline Package, 10 x 9.25 mm Body, 2.54 mm Pitch; Supplier 1: Mouser; Supplier Part Number 1: 726-IPB60R165CP; Supplier 2: Newark; Supplier Part Number 2: 33P7134; Supplier 3: Farnell; Supplier Part Number 3: 1664017RL; Supplier 4: Farnell; Supplier Part Number 4: 1664017; Supplier 5: Digi-Key; Supplier Part Number 5: IPB60R165CPTR-ND; Supplier 6: Digi-Key; Supplier Part Number 6: IPB60R165CPCT-ND; Supplier 7: Digi-Key; Supplier Part Number 7: IPB60R165CPDKR-ND; Halogen-free: TRUE; Packing: Reel; RthJC (max): 0.65 K/W; Technology: CoolMOS CP; Mounting Technology: Surface Mount; ComponentLink1Description: Manufacturer URL; ComponentLink1URL: http://www.infineon.com/; ComponentLink2Description: Datasheet; ComponentLink2URL: http://www.infineon.com/dgdl/IPB60R165CP_rev2+1.pdf?folderId=db3a304412b407950112b408e8c90004&fileId=db3a304412b407950112b42dd38f48fc; ComponentLink3Description: Package Specification; ComponentLink3URL: http://www.infineon.com/dgdl/BTS141TC_DS_10.pdf?folderId=db3a3043163797a6011667aa084c0e01&fileId=db3a3043242ebc9e01242f43f58b003e&location=en.Products.Automotive_ICs.Smart_High-_and_Low-Side_Switches.HITFET___TEMPFET__-_Smart_Low-Side_Switches.DATASHEET.BTS141TC_DS_10.pdf
footprint INF-PG-TO263-3-2_N (DPAK, 3-Leads, Body 10x9.25mm, Pitch 2.54mm, IPC Medium Density)
footprint INF-PG-TO263-3-2_L (DPAK, 3-Leads, Body 10x9.25mm, Pitch 2.54mm, IPC High Density)
footprint INF-PG-TO263-3-2_M (DPAK, 3-Leads, Body 10x9.25mm, Pitch 2.54mm, IPC Low Density)
pins: 1 GATE, 2 DRAIN, 3 SOURCE

## IPB60R190C6
designator Q?
N-Channel CoolMOS C6 Power-Transistor, 600 V VDS, 20.2 A ID, -55 to 150 degC, PG-TO263-3-2, Reel, Green; Manufacturer: Infineon; PartNumber: IPB60R190C6; Green: TRUE; ID (max): 20.2 A; IDpuls (max): 59 A; Polarity: N; Ptot (max): 151 W; QG: 63 nC; RDS (on) (max): 190 mOhm; Rth: 0.83 K/W; RthJA (max): 62 K/W; VDS (max): 600 V; VGS(th) (max): 3.5 V; VGS(th) (min): 2.5 V; DatasheetVersion: Rev. 2.1; PackageVersion: Jul-09; PackageReference: PG-TO263-3-2; PackageDescription: 3-Pin Plastic (Green) Transistor Single Outline Package, 10 x 9.25 mm Body, 2.54 mm Pitch; Supplier 1: Mouser; Supplier Part Number 1: 726-IPB60R190C6; Supplier 2: Digi-Key; Supplier Part Number 2: IPB60R190C6INTR-ND; Supplier 3: Digi-Key; Supplier Part Number 3: IPB60R190C6INCT-ND; Supplier 4: Digi-Key; Supplier Part Number 4: IPB60R190C6INDKR-ND; Halogen-free: TRUE; Packing: Reel; RthJC (max): 0.83 K/W; Technology: CoolMOS C6; Mounting Technology: Surface Mount; ComponentLink1Description: Manufacturer URL; ComponentLink1URL: http://www.infineon.com/; ComponentLink2Description: Datasheet; ComponentLink2URL: http://www.infineon.com/dgdl/IPB60R190C6_2_1.pdf?folderId=db3a30431ff98815012019af55de3f2c&fileId=db3a30432239cccd0122650aa93b114b; ComponentLink3Description: Package Specification; ComponentLink3URL: http://www.infineon.com/dgdl/BTS141TC_DS_10.pdf?folderId=db3a3043163797a6011667aa084c0e01&fileId=db3a3043242ebc9e01242f43f58b003e&location=en.Products.Automotive_ICs.Smart_High-_and_Low-Side_Switches.HITFET___TEMPFET__-_Smart_Low-Side_Switches.DATASHEET.BTS141TC_DS_10.pdf
footprint INF-PG-TO263-3-2_N (DPAK, 3-Leads, Body 10x9.25mm, Pitch 2.54mm, IPC Medium Density)
footprint INF-PG-TO263-3-2_L (DPAK, 3-Leads, Body 10x9.25mm, Pitch 2.54mm, IPC High Density)
footprint INF-PG-TO263-3-2_M (DPAK, 3-Leads, Body 10x9.25mm, Pitch 2.54mm, IPC Low Density)
pins: 1 GATE, 2 DRAIN, 3 SOURCE

## IPB60R199CP
designator Q?
N-Channel CoolMOS Power-Transistor, 600 V VDS, 16 A ID, -55 to 150 degC, PG-TO263-3-2, Reel, Green; Manufacturer: Infineon; PartNumber: IPB60R199CP; Green: TRUE; ID (max): 16 A; IDpuls (max): 51 A; Polarity: N; Ptot (max): 139 W; QG: 32 nC; RDS (on) (max): 199 mOhm; Rth: 0.9 K/W; RthJA (max): 62 K/W; VDS (max): 600 V; VGS(th) (max): 3.5 V; VGS(th) (min): 2.5 V; DatasheetVersion: Rev. 2.2; PackageVersion: Jul-09; PackageReference: PG-TO263-3-2; PackageDescription: 3-Pin Plastic (Green) Transistor Single Outline Package, 10 x 9.25 mm Body, 2.54 mm Pitch; Supplier 1: Mouser; Supplier Part Number 1: 726-IPB60R199CP; Supplier 2: Newark; Supplier Part Number 2: 33P7135; Supplier 3: Farnell; Supplier Part Number 3: 1664018; Supplier 4: Digi-Key; Supplier Part Number 4: IPB60R199CPTR-ND; Supplier 5: Digi-Key; Supplier Part Number 5: IPB60R199CPCT-ND; Supplier 6: Digi-Key; Supplier Part Number 6: IPB60R199CPDKR-ND; Halogen-free: TRUE; Packing: Reel; RthJC (max): 0.9 K/W; Technology: CoolMOS CP; Mounting Technology: Surface Mount; ComponentLink1Description: Manufacturer URL; ComponentLink1URL: http://www.infineon.com/; ComponentLink2Description: Datasheet; ComponentLink2URL: http://www.infineon.com/dgdl/IPB60R199CP_rev2.2.pdf?folderId=db3a304412b407950112b408e8c90004&fileId=db3a304412b407950112b42e76a449cf; ComponentLink3Description: Package Specification; ComponentLink3URL: http://www.infineon.com/dgdl/BTS141TC_DS_10.pdf?folderId=db3a3043163797a6011667aa084c0e01&fileId=db3a3043242ebc9e01242f43f58b003e&location=en.Products.Automotive_ICs.Smart_High-_and_Low-Side_Switches.HITFET___TEMPFET__-_Smart_Low-Side_Switches.DATASHEET.BTS141TC_DS_10.pdf
footprint INF-PG-TO263-3-2_N (DPAK, 3-Leads, Body 10x9.25mm, Pitch 2.54mm, IPC Medium Density)
footprint INF-PG-TO263-3-2_L (DPAK, 3-Leads, Body 10x9.25mm, Pitch 2.54mm, IPC High Density)
footprint INF-PG-TO263-3-2_M (DPAK, 3-Leads, Body 10x9.25mm, Pitch 2.54mm, IPC Low Density)
pins: 1 GATE, 2 DRAIN, 3 SOURCE

## IPB60R250CP
designator Q?
N-Channel CoolMOS Power-Transistor, 600 V VDS, 12 A ID, -55 to 150 degC, PG-TO263-3-2, Reel, Green; Manufacturer: Infineon; PartNumber: IPB60R250CP; Green: TRUE; ID (max): 12 A; IDpuls (max): 40 A; Polarity: N; Ptot (max): 104 W; QG: 26 nC; RDS (on) (max): 250 mOhm; Rth: 1.2 K/W; RthJA (max): 62 K/W; RthJC (max): 0.6 K/W; VDS (max): 600 V; VGS(th) (max): 3.5 V; VGS(th) (min): 2.5 V; DatasheetVersion: Rev. 2.2; PackageVersion: Jul-09; PackageReference: PG-TO263-3-2; PackageDescription: 3-Pin Plastic (Green) Transistor Single Outline Package, 10 x 9.25 mm Body, 2.54 mm Pitch; Supplier 1: Mouser; Supplier Part Number 1: 726-IPB60R250CP; Supplier 2: Digi-Key; Supplier Part Number 2: IPB60R250CP-ND; Halogen-free: TRUE; Packing: Reel; Technology: CoolMOS CP; Mounting Technology: Surface Mount; ComponentLink1Description: Manufacturer URL; ComponentLink1URL: http://www.infineon.com/; ComponentLink2Description: Datasheet; ComponentLink2URL: http://www.infineon.com/dgdl/IPB60R250CP_rev2.2.pdf?folderId=db3a30431ff98815012019af55de3f2c&fileId=db3a304320896aa201208b2fd3ce0087; ComponentLink3Description: Package Specification; ComponentLink3URL: http://www.infineon.com/dgdl/BTS141TC_DS_10.pdf?folderId=db3a3043163797a6011667aa084c0e01&fileId=db3a3043242ebc9e01242f43f58b003e&location=en.Products.Automotive_ICs.Smart_High-_and_Low-Side_Switches.HITFET___TEMPFET__-_Smart_Low-Side_Switches.DATASHEET.BTS141TC_DS_10.pdf
footprint INF-PG-TO263-3-2_N (DPAK, 3-Leads, Body 10x9.25mm, Pitch 2.54mm, IPC Medium Density)
footprint INF-PG-TO263-3-2_L (DPAK, 3-Leads, Body 10x9.25mm, Pitch 2.54mm, IPC High Density)
footprint INF-PG-TO263-3-2_M (DPAK, 3-Leads, Body 10x9.25mm, Pitch 2.54mm, IPC Low Density)
pins: 1 GATE, 2 DRAIN, 3 SOURCE

## IPB60R280C6
designator Q?
N-Channel CoolMOS C6 Power-Transistor, 600 V VDS, 13.8 A ID, -55 to 150 degC, PG-TO263-3-2, Reel, Green; Manufacturer: Infineon; PartNumber: IPB60R280C6; Green: TRUE; ID (max): 13.8 A; IDpuls (max): 40 A; Polarity: N; Ptot (max): 104 W; QG: 43 nC; RDS (on) (max): 280 mOhm; Rth: 1.2 K/W; RthJA (max): 62 K/W; VDS (max): 600 V; VGS(th) (max): 3.5 V; VGS(th) (min): 2.5 V; DatasheetVersion: Rev. 2.1; PackageVersion: Jul-09; PackageReference: PG-TO263-3-2; PackageDescription: 3-Pin Plastic (Green) Transistor Single Outline Package, 10 x 9.25 mm Body, 2.54 mm Pitch; Supplier 1: Mouser; Supplier Part Number 1: 726-IPB60R280C6XT; Supplier 2: Digi-Key; Supplier Part Number 2: IPB60R280C6TR-ND; Supplier 3: Digi-Key; Supplier Part Number 3: IPB60R280C6CT-ND; Supplier 4: Digi-Key; Supplier Part Number 4: IPB60R280C6DKR-ND; Halogen-free: TRUE; Packing: Reel; RthJC (max): 1.2 K/W; Technology: CoolMOS C6; Mounting Technology: Surface Mount; ComponentLink1Description: Manufacturer URL; ComponentLink1URL: http://www.infineon.com/; ComponentLink2Description: Datasheet; ComponentLink2URL: http://www.infineon.com/dgdl/IPB60R280C6_2_1.pdf?folderId=db3a3043163797a6011638933eda014b&fileId=db3a30432313ff5e0123a4413ff0274a; ComponentLink3Description: Package Specification; ComponentLink3URL: http://www.infineon.com/dgdl/BTS141TC_DS_10.pdf?folderId=db3a3043163797a6011667aa084c0e01&fileId=db3a3043242ebc9e01242f43f58b003e&location=en.Products.Automotive_ICs.Smart_High-_and_Low-Side_Switches.HITFET___TEMPFET__-_Smart_Low-Side_Switches.DATASHEET.BTS141TC_DS_10.pdf
footprint INF-PG-TO263-3-2_N (DPAK, 3-Leads, Body 10x9.25mm, Pitch 2.54mm, IPC Medium Density)
footprint INF-PG-TO263-3-2_L (DPAK, 3-Leads, Body 10x9.25mm, Pitch 2.54mm, IPC High Density)
footprint INF-PG-TO263-3-2_M (DPAK, 3-Leads, Body 10x9.25mm, Pitch 2.54mm, IPC Low Density)
pins: 1 GATE, 2 DRAIN, 3 SOURCE

## IPB60R299CP
designator Q?
N-Channel CoolMOS Power-Transistor, 600 V VDS, 11 A ID, -55 to 150 degC, PG-TO263-3-2, Reel, Green; Manufacturer: Infineon; PartNumber: IPB60R299CP; Green: TRUE; ID (max): 11 A; IDpuls (max): 34 A; Polarity: N; Ptot (max): 96 W; QG: 22 nC; RDS (on) (max): 299 mOhm; Rth: 1.3 K/W; RthJA (max): 62 K/W; VDS (max): 600 V; VGS(th) (max): 3.5 V; VGS(th) (min): 2.5 V; DatasheetVersion: Rev. 2.0; PackageVersion: Jul-09; PackageReference: PG-TO263-3-2; PackageDescription: 3-Pin Plastic (Green) Transistor Single Outline Package, 10 x 9.25 mm Body, 2.54 mm Pitch; Supplier 1: Mouser; Supplier Part Number 1: 726-IPB60R299CP; Supplier 2: Newark; Supplier Part Number 2: 33P7137; Supplier 3: Farnell; Supplier Part Number 3: 1664020; Supplier 4: Digi-Key; Supplier Part Number 4: IPB60R299CPTR-ND; Supplier 5: Digi-Key; Supplier Part Number 5: IPB60R299CPCT-ND; Supplier 6: Digi-Key; Supplier Part Number 6: IPB60R299CPDKR-ND; Halogen-free: TRUE; Packing: Reel; RthJC (max): 1.3 K/W; Technology: CoolMOS CP; Mounting Technology: Surface Mount; ComponentLink1Description: Manufacturer URL; ComponentLink1URL: http://www.infineon.com/; ComponentLink2Description: Datasheet; ComponentLink2URL: http://www.infineon.com/dgdl/IPB60R299CP_rev2.0.pdf?folderId=db3a304314dca38901152837f87d12ad&fileId=db3a30431689f4420116d30161ca0c0b; ComponentLink3Description: Package Specification; ComponentLink3URL: http://www.infineon.com/dgdl/BTS141TC_DS_10.pdf?folderId=db3a3043163797a6011667aa084c0e01&fileId=db3a3043242ebc9e01242f43f58b003e&location=en.Products.Automotive_ICs.Smart_High-_and_Low-Side_Switches.HITFET___TEMPFET__-_Smart_Low-Side_Switches.DATASHEET.BTS141TC_DS_10.pdf
footprint INF-PG-TO263-3-2_N (DPAK, 3-Leads, Body 10x9.25mm, Pitch 2.54mm, IPC Medium Density)
footprint INF-PG-TO263-3-2_L (DPAK, 3-Leads, Body 10x9.25mm, Pitch 2.54mm, IPC High Density)
footprint INF-PG-TO263-3-2_M (DPAK, 3-Leads, Body 10x9.25mm, Pitch 2.54mm, IPC Low Density)
pins: 1 GATE, 2 DRAIN, 3 SOURCE

## IPB60R380C6
designator Q?
N-Channel CoolMOS C6 Power-Transistor, 600 V VDS, 10.6 A ID, -55 to 150 degC, PG-TO263-3-2, Reel, Green; Manufacturer: Infineon; PartNumber: IPB60R380C6; Green: TRUE; ID (max): 10.6 A; IDpuls (max): 30 A; Polarity: N; Ptot (max): 83 W; QG: 32 nC; RDS (on) (max): 380 mOhm; Rth: 1.5 K/W; RthJA (max): 62 K/W; VDS (max): 600 V; VGS(th) (max): 3.5 V; VGS(th) (min): 2.5 V; DatasheetVersion: Rev. 2.0; PackageVersion: Jul-09; PackageReference: PG-TO263-3-2; PackageDescription: 3-Pin Plastic (Green) Transistor Single Outline Package, 10 x 9.25 mm Body, 2.54 mm Pitch; Supplier 1: Mouser; Supplier Part Number 1: 726-IP726-B60R380C6; Supplier 2: Newark; Supplier Part Number 2: 30T1832; Supplier 3: Farnell; Supplier Part Number 3: 1860812; Supplier 4: Digi-Key; Supplier Part Number 4: IPB60R380C6TR-ND; Supplier 5: Digi-Key; Supplier Part Number 5: IPB60R380C6CT-ND; Supplier 6: Digi-Key; Supplier Part Number 6: IPB60R380C6DKR-ND; Halogen-free: TRUE; Packing: Reel; RthJC (max): 1.5 K/W; Technology: CoolMOS C6; Mounting Technology: Surface Mount; ComponentLink1Description: Manufacturer URL; ComponentLink1URL: http://www.infineon.com/; ComponentLink2Description: Datasheet; ComponentLink2URL: http://www.infineon.com/dgdl/IPB60R380C6_2_0.pdf?folderId=db3a30431ff98815012019af55de3f2c&fileId=db3a30432239cccd012297c86280445b; ComponentLink3Description: Package Specification; ComponentLink3URL: http://www.infineon.com/dgdl/BTS141TC_DS_10.pdf?folderId=db3a3043163797a6011667aa084c0e01&fileId=db3a3043242ebc9e01242f43f58b003e&location=en.Products.Automotive_ICs.Smart_High-_and_Low-Side_Switches.HITFET___TEMPFET__-_Smart_Low-Side_Switches.DATASHEET.BTS141TC_DS_10.pdf
footprint INF-PG-TO263-3-2_N (DPAK, 3-Leads, Body 10x9.25mm, Pitch 2.54mm, IPC Medium Density)
footprint INF-PG-TO263-3-2_L (DPAK, 3-Leads, Body 10x9.25mm, Pitch 2.54mm, IPC High Density)
footprint INF-PG-TO263-3-2_M (DPAK, 3-Leads, Body 10x9.25mm, Pitch 2.54mm, IPC Low Density)
pins: 1 GATE, 2 DRAIN, 3 SOURCE

## IPB60R385CP
designator Q?
N-Channel CoolMOS Power-Transistor, 600 V VDS, 9 A ID, -55 to 150 degC, PG-TO263-3-2, Reel, Green; Manufacturer: Infineon; PartNumber: IPB60R385CP; Green: TRUE; ID (max): 9 A; IDpuls (max): 27 A; Polarity: N; Ptot (max): 83 W; QG: 17 nC; RDS (on) (max): 385 mOhm; Rth: 1.5 K/W; RthJA (max): 62 K/W; VDS (max): 600 V; VGS(th) (max): 3.5 V; VGS(th) (min): 2.5 V; DatasheetVersion: Rev. 2.0; PackageVersion: Jul-09; PackageReference: PG-TO263-3-2; PackageDescription: 3-Pin Plastic (Green) Transistor Single Outline Package, 10 x 9.25 mm Body, 2.54 mm Pitch; Supplier 1: Mouser; Supplier Part Number 1: 726-IPB60R385CP; Supplier 2: Newark; Supplier Part Number 2: 33P7138; Supplier 3: Farnell; Supplier Part Number 3: 1664021; Supplier 4: Farnell; Supplier Part Number 4: 1664021RL; Supplier 5: Digi-Key; Supplier Part Number 5: IPB60R385CPTR-ND; Supplier 6: Digi-Key; Supplier Part Number 6: IPB60R385CPCT-ND; Supplier 7: Digi-Key; Supplier Part Number 7: IPB60R385CPDKR-ND; Halogen-free: TRUE; Packing: Reel; RthJC (max): 1.5 K/W; Technology: CoolMOS CP; Mounting Technology: Surface Mount; ComponentLink1Description: Manufacturer URL; ComponentLink1URL: http://www.infineon.com/; ComponentLink2Description: Datasheet; ComponentLink2URL: http://www.infineon.com/dgdl/IPB60R385CP_rev2.0.pdf?folderId=db3a304412b407950112b408e8c90004&fileId=db3a304412b407950112b42e836749df; ComponentLink3Description: Package Specification; ComponentLink3URL: http://www.infineon.com/dgdl/BTS141TC_DS_10.pdf?folderId=db3a3043163797a6011667aa084c0e01&fileId=db3a3043242ebc9e01242f43f58b003e&location=en.Products.Automotive_ICs.Smart_High-_and_Low-Side_Switches.HITFET___TEMPFET__-_Smart_Low-Side_Switches.DATASHEET.BTS141TC_DS_10.pdf
footprint INF-PG-TO263-3-2_N (DPAK, 3-Leads, Body 10x9.25mm, Pitch 2.54mm, IPC Medium Density)
footprint INF-PG-TO263-3-2_L (DPAK, 3-Leads, Body 10x9.25mm, Pitch 2.54mm, IPC High Density)
footprint INF-PG-TO263-3-2_M (DPAK, 3-Leads, Body 10x9.25mm, Pitch 2.54mm, IPC Low Density)
pins: 1 GATE, 2 DRAIN, 3 SOURCE

## IPB60R520CP
designator Q?
N-Channel CoolMOS Power-Transistor, 600 V VDS, 6.8 A ID, -55 to 150 degC, PG-TO263-3-2, Reel, Green; Manufacturer: Infineon; PartNumber: IPB60R520CP; Green: TRUE; ID (max): 6.8 A; IDpuls (max): 17 A; Polarity: N; Ptot (max): 66 W; QG: 24 nC; RDS (on) (max): 520 mOhm; Rth: 1.9 K/W; RthJA (max): 62 K/W; VDS (max): 600 V; VGS(th) (max): 3.5 V; VGS(th) (min): 2.5 V; DatasheetVersion: Rev. 2.0; PackageVersion: Jul-09; PackageReference: PG-TO263-3-2; PackageDescription: 3-Pin Plastic (Green) Transistor Single Outline Package, 10 x 9.25 mm Body, 2.54 mm Pitch; Supplier 1: Mouser; Supplier Part Number 1: 726-IPB60R520CP; Supplier 2: Newark; Supplier Part Number 2: 33P7139; Supplier 3: Farnell; Supplier Part Number 3: 1664022; Supplier 4: Digi-Key; Supplier Part Number 4: IPB60R520CPTR-ND; Supplier 5: Digi-Key; Supplier Part Number 5: IPB60R520CPCT-ND; Supplier 6: Digi-Key; Supplier Part Number 6: IPB60R520CPDKR-ND; Halogen-free: TRUE; Packing: Reel; RthJC (max): 1.9 K/W; Technology: CoolMOS CP; Mounting Technology: Surface Mount; ComponentLink1Description: Manufacturer URL; ComponentLink1URL: http://www.infineon.com/; ComponentLink2Description: Datasheet; ComponentLink2URL: http://www.infineon.com/dgdl/IPB60R520CP_rev2.0.pdf?folderId=db3a3043163797a6011637d4bae7003b&fileId=db3a3043183a95550118792e20dc045d; ComponentLink3Description: Package Specification; ComponentLink3URL: http://www.infineon.com/dgdl/BTS141TC_DS_10.pdf?folderId=db3a3043163797a6011667aa084c0e01&fileId=db3a3043242ebc9e01242f43f58b003e&location=en.Products.Automotive_ICs.Smart_High-_and_Low-Side_Switches.HITFET___TEMPFET__-_Smart_Low-Side_Switches.DATASHEET.BTS141TC_DS_10.pdf
footprint INF-PG-TO263-3-2_N (DPAK, 3-Leads, Body 10x9.25mm, Pitch 2.54mm, IPC Medium Density)
footprint INF-PG-TO263-3-2_L (DPAK, 3-Leads, Body 10x9.25mm, Pitch 2.54mm, IPC High Density)
footprint INF-PG-TO263-3-2_M (DPAK, 3-Leads, Body 10x9.25mm, Pitch 2.54mm, IPC Low Density)
pins: 1 GATE, 2 DRAIN, 3 SOURCE